# Altium integrated library GRM21BR71A106KA73L.IntLib: 1 symbol
Pins are listed as number, name and electrical type; pins without a type are passive.

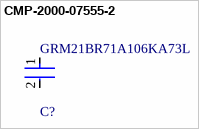
[diagram p0: symbol CMP-2000-07555-2]

## CMP-2000-07555-2
designator C?, comment GRM21BR71A106KA73L
Chip Multilayer Ceramic Capacitors for General Purpose, 0805, 10uF, X7R, 15%, 10%, 10V; Length: 2mm; Case Code (Metric): 2012; Height: 1.25mm; Tolerance: 10%; Width: 1.25mm; Voltage Rating: 10V; Voltage Rating (DC): 10V; Case/Package: 0805; Package Quantity: 3000; Capacitance: 10uF; REACH SVHC: No SVHC; Case Code (Imperial): 0805; Min Operating Temperature: -55°C; Termination: SMD/SMT; Depth: 1.25mm; Mount: Surface Mount; Thickness: 0.055inch; Max Operating Temperature: 125°C; Weight: 0.000335oz; Dielectric: X7R; Packaging: Tape and Reel
footprint FP-GRM21B-0_15-MFG
footprint FP-GRM21B-0_15-IPC_C
footprint FP-GRM21B-0_15-IPC_B
footprint FP-GRM21B-0_15-IPC_A
pins: 1, 2